# Altium integrated library Analog Devices Data Converters Digital-to-Analog Converters.IntLib: 2231 symbols (part 19 of 181)
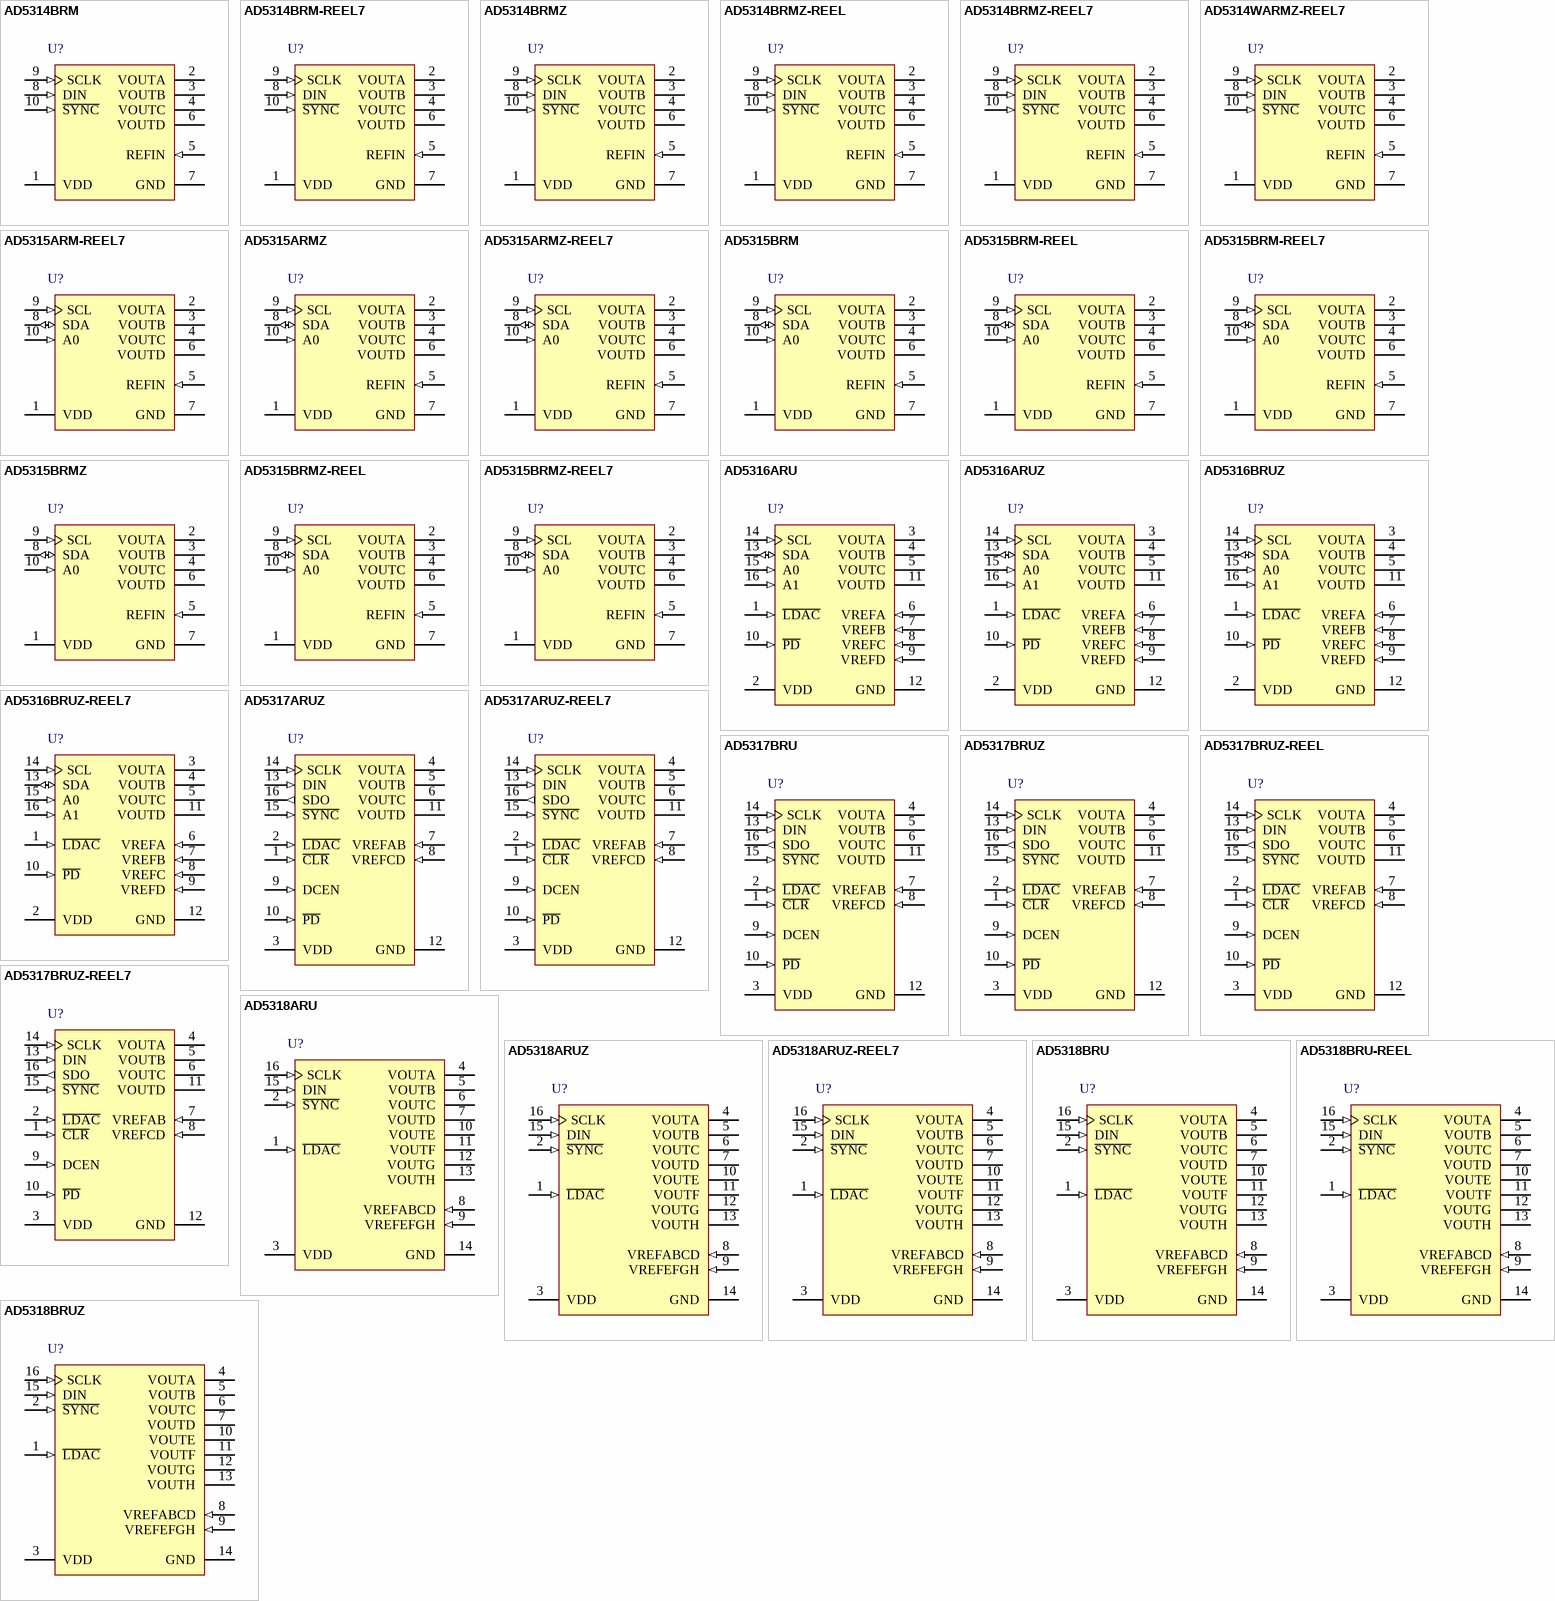
[diagram p132: symbols AD5314BRM to AD5318BRUZ]

## AD5316BRUZ
designator U?
Quad 10-Bit VoltageOutput Digital-to-Analog Converter with 2-Wire Interface, 2.5 to 5.5 V, 400 uA, -40 to +105 degC, RU-16, Pb-Free, Tube; Generic Part Number: AD5316; Manufacturer: Analog Devices; PartNumber: AD5316BRUZ; # DAC Outputs: 4; Max V+: 5.5V; Op Pwr Diss: 2.5mW; Resolution (Bits): 10; Settling Time: 7µs; Single Supply: Yes; DatasheetVersion: Rev.F; PackageVersion: Nov-2002; PackageReference: RU-16; PackageDescription: 16-Lead Thin Shrink Small Outline Package [TSSOP]; Supplier 1: Digi-Key; Supplier Part Number 1: AD5316BRUZ-ND; Supplier 2: Farnell; Supplier Part Number 2: 1079338; Supplier 3: Newark; Supplier Part Number 3: 31M4067; Supplier 4: Newark; Supplier Part Number 4: 59K3909; Supplier 5: Mouser; Supplier Part Number 5: 584-AD5316BRUZ; Packing: Tube; RoHS: Y; Mounting Technology: Surface Mount; Code_JEDEC: MO-153-AB; ComponentLink1Description: Manufacturer URL; ComponentLink1URL: http://www.analog.com/en/index.html; ComponentLink2Description: Datasheet; ComponentLink2URL: http://www.analog.com/static/imported-files/data_sheets/AD5306_5316_5326.pdf; ComponentLink3Description: Package Specification; ComponentLink3URL: http://www.analog.com/static/imported-files/packages/36244347913743854010197452789RU16.pdf; ComponentLink4Description: Product URL; ComponentLink4URL: http://www.analog.com/en/digital-to-analog-converters/da-converters/ad5316/products/product.html
footprint RU-16_N (TSOP, 16-Leads, Body 5x4.4mm, Pitch 0.65mm, IPC Medium Density)
footprint RU-16_L (TSOP, 16-Leads, Body 5x4.4mm, Pitch 0.65mm, IPC High Density)
footprint RU-16_M (TSOP, 16-Leads, Body 5x4.4mm, Pitch 0.65mm, IPC Low Density)
pins: 1 ~{LDAC} (in) "Active Low Control Input. Transfers the contents of the input registers to their respective DAC registers.Pulsing this pin low allows any or all DAC registers to be updated if the input registers have new data. This allows (See Datasheet)", 2 VDD (power) "Power Supply Input. These parts can be operated from 2.5 V to 5.5 V and the supply should be decoupled with a10 uF capacitor in parallel with a 0.1 uF capacitor to GND.", 3 VOUTA (hiz) "Buffered Analog Output Voltage from DAC A. The output amplifier has rail-to-rail operation.", 4 VOUTB (hiz) "Buffered Analog Output Voltage from DAC B. The output amplifier has rail-to-rail operation.", 5 VOUTC (hiz) "Buffered Analog Output Voltage from DAC C. The output amplifier has rail-to-rail operation.", 6 VREFA (in) "Reference Input Pin for DAC A. This pin can be configured as a buffered or an unbuffered input depending on the state of the BUF bit in the input word to DAC A. It has an input range from 0.25 V to VDD in unbuffered mode and (See Datasheet)", 7 VREFB (in) "Reference Input Pin for DAC B. This pin can be configured as a buffered or an unbuffered input depending on the state of the BUF bit in the input word to DAC B. It has an input range from 0.25 V to VDD in unbuffered mode and (See Datasheet)", 8 VREFC (in) "Reference Input Pin for DAC C. This pin can be configured as a buffered or an unbuffered input depending on the state of the BUF bit in the input word to DAC C. It has an input range from 0.25 V to VDD in unbuffered mode and (See Datasheet)", 9 VREFD (in) "Reference Input Pin for DAC D. This pin can be configured as a buffered or an unbuffered input depending on the state of the BUF bit in the input word to DAC D. It has an input range from 0.25 V to VDD in unbuffered mode and (See Datasheet)", 10 ~{PD} (in) "Active Low Control Input. Acts as a hardware power-down option. All DACs go into power-down mode when this pin is tied low. The DAC outputs go into a high impedance state. The current consumption of the part drops to 300 nA (See Datasheet)", 11 VOUTD (hiz) "Buffered Analog Output Voltage from DAC D. The output amplifier has rail-to-rail operation.", 12 GND (power) "Ground Reference Point for All Circuitry on the Part.", 13 SDA (io) "Serial Data Line. This is used in conjunction with the SCL line to clock data into the 16-bit input shift register.It is a bidirectional open-drain data line that should be pulled to the supply with an external pull-up (See Datasheet)", 14 SCL (in) "Serial Clock Line. This is used in conjunction with the SDA line to clock data into the 16-bit input shift register.Clock rates of up to 400 kbps can be accommodated in the I2C-compatible interface.", 15 A0 (in) "Address Input. Sets the LSB of the 7-bit slave address.", 16 A1 (in) "Address Input. Sets the second LSB of the 7-bit slave address."

## AD5316BRUZ-REEL7
designator U?
Quad 10-Bit VoltageOutput Digital-to-Analog Converter with 2-Wire Interface, 2.5 to 5.5 V, 400 uA, -40 to +105 degC, RU-16, Pb-Free, Reel; Generic Part Number: AD5316; Manufacturer: Analog Devices; PartNumber: AD5316BRUZ-REEL7; # DAC Outputs: 4; Max V+: 5.5V; Op Pwr Diss: 2.5mW; Resolution (Bits): 10; Settling Time: 7µs; Single Supply: Yes; DatasheetVersion: Rev.F; PackageVersion: Nov-2002; PackageReference: RU-16; PackageDescription: 16-Lead Thin Shrink Small Outline Package [TSSOP]; Supplier 1: Digi-Key; Supplier Part Number 1: AD5316BRUZ-REEL7-ND; Supplier 2: Mouser; Supplier Part Number 2: 584-AD5316BRUZ-R7; Packing: Reel; RoHS: Y; Mounting Technology: Surface Mount; Code_JEDEC: MO-153-AB; ComponentLink1Description: Manufacturer URL; ComponentLink1URL: http://www.analog.com/en/index.html; ComponentLink2Description: Datasheet; ComponentLink2URL: http://www.analog.com/static/imported-files/data_sheets/AD5306_5316_5326.pdf; ComponentLink3Description: Package Specification; ComponentLink3URL: http://www.analog.com/static/imported-files/packages/36244347913743854010197452789RU16.pdf; ComponentLink4Description: Product URL; ComponentLink4URL: http://www.analog.com/en/digital-to-analog-converters/da-converters/ad5316/products/product.html
footprint RU-16_N (TSOP, 16-Leads, Body 5x4.4mm, Pitch 0.65mm, IPC Medium Density)
footprint RU-16_L (TSOP, 16-Leads, Body 5x4.4mm, Pitch 0.65mm, IPC High Density)
footprint RU-16_M (TSOP, 16-Leads, Body 5x4.4mm, Pitch 0.65mm, IPC Low Density)
pins: 1 ~{LDAC} (in) "Active Low Control Input. Transfers the contents of the input registers to their respective DAC registers.Pulsing this pin low allows any or all DAC registers to be updated if the input registers have new data. This allows (See Datasheet)", 2 VDD (power) "Power Supply Input. These parts can be operated from 2.5 V to 5.5 V and the supply should be decoupled with a10 uF capacitor in parallel with a 0.1 uF capacitor to GND.", 3 VOUTA (hiz) "Buffered Analog Output Voltage from DAC A. The output amplifier has rail-to-rail operation.", 4 VOUTB (hiz) "Buffered Analog Output Voltage from DAC B. The output amplifier has rail-to-rail operation.", 5 VOUTC (hiz) "Buffered Analog Output Voltage from DAC C. The output amplifier has rail-to-rail operation.", 6 VREFA (in) "Reference Input Pin for DAC A. This pin can be configured as a buffered or an unbuffered input depending on the state of the BUF bit in the input word to DAC A. It has an input range from 0.25 V to VDD in unbuffered mode and (See Datasheet)", 7 VREFB (in) "Reference Input Pin for DAC B. This pin can be configured as a buffered or an unbuffered input depending on the state of the BUF bit in the input word to DAC B. It has an input range from 0.25 V to VDD in unbuffered mode and (See Datasheet)", 8 VREFC (in) "Reference Input Pin for DAC C. This pin can be configured as a buffered or an unbuffered input depending on the state of the BUF bit in the input word to DAC C. It has an input range from 0.25 V to VDD in unbuffered mode and (See Datasheet)", 9 VREFD (in) "Reference Input Pin for DAC D. This pin can be configured as a buffered or an unbuffered input depending on the state of the BUF bit in the input word to DAC D. It has an input range from 0.25 V to VDD in unbuffered mode and (See Datasheet)", 10 ~{PD} (in) "Active Low Control Input. Acts as a hardware power-down option. All DACs go into power-down mode when this pin is tied low. The DAC outputs go into a high impedance state. The current consumption of the part drops to 300 nA (See Datasheet)", 11 VOUTD (hiz) "Buffered Analog Output Voltage from DAC D. The output amplifier has rail-to-rail operation.", 12 GND (power) "Ground Reference Point for All Circuitry on the Part.", 13 SDA (io) "Serial Data Line. This is used in conjunction with the SCL line to clock data into the 16-bit input shift register.It is a bidirectional open-drain data line that should be pulled to the supply with an external pull-up (See Datasheet)", 14 SCL (in) "Serial Clock Line. This is used in conjunction with the SDA line to clock data into the 16-bit input shift register.Clock rates of up to 400 kbps can be accommodated in the I2C-compatible interface.", 15 A0 (in) "Address Input. Sets the LSB of the 7-bit slave address.", 16 A1 (in) "Address Input. Sets the second LSB of the 7-bit slave address."

## AD5317ARUZ
designator U?
Quad 10-Bit VoltageOutput Digital-to-Analog Converter, 2.5 to 5.5 V, 400 uA, -40 to +105 degC, RU-16, Pb-Free, Tube; Generic Part Number: AD5317; Manufacturer: Analog Devices; PartNumber: AD5317ARUZ; # DAC Outputs: 4; Max V+: 5.5V; Op Pwr Diss: 2.5mW; Resolution (Bits): 10; Settling Time: 7µs; Single Supply: Yes; DatasheetVersion: Rev.C; PackageVersion: Nov-2002; PackageReference: RU-16; PackageDescription: 16-Lead Thin Shrink Small Outline Package [TSSOP]; Supplier 1: Digi-Key; Supplier Part Number 1: AD5317ARUZ-ND; Supplier 2: Mouser; Supplier Part Number 2: 584-AD5317ARUZ; Packing: Tube; RoHS: Y; Mounting Technology: Surface Mount; Code_JEDEC: MO-153-AB; ComponentLink1Description: Manufacturer URL; ComponentLink1URL: http://www.analog.com/en/index.html; ComponentLink2Description: Datasheet; ComponentLink2URL: http://www.analog.com/static/imported-files/data_sheets/AD5307_5317_5327.pdf; ComponentLink3Description: Package Specification; ComponentLink3URL: http://www.analog.com/static/imported-files/packages/36244347913743854010197452789RU16.pdf; ComponentLink4Description: Product URL; ComponentLink4URL: http://www.analog.com/en/digital-to-analog-converters/da-converters/ad5317/products/product.html
footprint RU-16_N (TSOP, 16-Leads, Body 5x4.4mm, Pitch 0.65mm, IPC Medium Density)
footprint RU-16_L (TSOP, 16-Leads, Body 5x4.4mm, Pitch 0.65mm, IPC High Density)
footprint RU-16_M (TSOP, 16-Leads, Body 5x4.4mm, Pitch 0.65mm, IPC Low Density)
pins: 1 ~{CLR} (in) "Active Low Control Input. Loads all 0s to all input and DAC registers. Therefore, the outputs also go to 0 V.", 2 ~{LDAC} (in) "Active Low Control Input. Transfers the contents of the input registers to their respective DAC registers. Pulsing this pin low allows any or all DAC registers to be updated if the input registers have new data. This allows (See Datasheet)", 3 VDD (power) "Power Supply Input. These parts can be operated from 2.5 V to 5.5 V, and the supply should be decoupled with a 10 uF capacitor in parallel with a 0.1 uF capacitor to GND.", 4 VOUTA (hiz) "Buffered Analog Output Voltage from DAC A. The output amplifier has rail-to-rail operation.", 5 VOUTB (hiz) "Buffered Analog Output Voltage from DAC B. The output amplifier has rail-to-rail operation.", 6 VOUTC (hiz) "Buffered Analog Output Voltage from DAC C. The output amplifier has rail-to-rail operation.", 7 VREFAB (in) "Reference Input Pin for DAC A and DAC B. It can be configured as a buffered or unbuffered input to each or both of the DACs, depending on the state of the BUF bits in the serial input words to DAC A and DAC B. It has an (See Datasheet)", 8 VREFCD (in) "Reference Input Pin for DAC C and DAC D. It can be configured as a buffered or unbuffered input to each or both of the DACs, depending on the state of the BUF bits in the serial input words to DAC C and DAC D. It has an (See Datasheet)", 9 DCEN (in) "Enables the Daisy-Chaining Option. It should be tied high if the part is being used in a daisy chain, and tied low if it is being used in standalone mode.", 10 ~{PD} (in) "Active Low Control Input. It acts like a hardware power-down option. All DACs go into power-down mode when this pin is tied low. The DAC outputs go into a high impedance state, and the current consumption of the part drops (See Datasheet)", 11 VOUTD (hiz) "Buffered Analog Output Voltage from DAC D. The output amplifier has rail-to-rail operation.", 12 GND (power) "Ground Reference Point for All Circuitry on the Part.", 13 DIN (in) "Serial Data Input. These devices each have a 16-bit shift register. Data is clocked into the register on the falling edge of the serial clock input. The DIN input buffer is powered down after each write cycle.", 14 SCLK (in) "Serial Clock Input. Data is clocked into the input shift register on the falling edge of the serial clock input. Data can be transferred at rates of up to 30 MHz. The SCLK input buffer is powered down after each write cycle.", 15 ~{SYNC} (in) "Active Low Control Input. This is the frame synchronization signal for the input data. When S\Y\N\C\ goes low, it powers on the SCLK and DIN buffers and enables the input shift register. Data is transferred in on the falling (See Datasheet)", 16 SDO (out) "Serial Data Output. Can be used for daisy-chaining a number of these devices together or for reading back the data in the shift register for diagnostic purposes. The serial data is transferred on the rising edge of SCLK and (See Datasheet)"

## AD5317ARUZ-REEL7
designator U?
Quad 10-Bit VoltageOutput Digital-to-Analog Converter, 2.5 to 5.5 V, 400 uA, -40 to +105 degC, RU-16, Pb-Free, Reel; Generic Part Number: AD5317; Manufacturer: Analog Devices; PartNumber: AD5317ARUZ-REEL7; # DAC Outputs: 4; Max V+: 5.5V; Op Pwr Diss: 2.5mW; Resolution (Bits): 10; Settling Time: 7µs; Single Supply: Yes; DatasheetVersion: Rev.C; PackageVersion: Nov-2002; PackageReference: RU-16; PackageDescription: 16-Lead Thin Shrink Small Outline Package [TSSOP]; Supplier 1: Digi-Key; Supplier Part Number 1: AD5317ARUZ-REEL7-ND; Supplier 2: Mouser; Supplier Part Number 2: 584-AD5317ARUZ-R7; Packing: Reel; RoHS: Y; Mounting Technology: Surface Mount; Code_JEDEC: MO-153-AB; ComponentLink1Description: Manufacturer URL; ComponentLink1URL: http://www.analog.com/en/index.html; ComponentLink2Description: Datasheet; ComponentLink2URL: http://www.analog.com/static/imported-files/data_sheets/AD5307_5317_5327.pdf; ComponentLink3Description: Package Specification; ComponentLink3URL: http://www.analog.com/static/imported-files/packages/36244347913743854010197452789RU16.pdf; ComponentLink4Description: Product URL; ComponentLink4URL: http://www.analog.com/en/digital-to-analog-converters/da-converters/ad5317/products/product.html
footprint RU-16_N (TSOP, 16-Leads, Body 5x4.4mm, Pitch 0.65mm, IPC Medium Density)
footprint RU-16_L (TSOP, 16-Leads, Body 5x4.4mm, Pitch 0.65mm, IPC High Density)
footprint RU-16_M (TSOP, 16-Leads, Body 5x4.4mm, Pitch 0.65mm, IPC Low Density)
pins: 1 ~{CLR} (in) "Active Low Control Input. Loads all 0s to all input and DAC registers. Therefore, the outputs also go to 0 V.", 2 ~{LDAC} (in) "Active Low Control Input. Transfers the contents of the input registers to their respective DAC registers. Pulsing this pin low allows any or all DAC registers to be updated if the input registers have new data. This allows (See Datasheet)", 3 VDD (power) "Power Supply Input. These parts can be operated from 2.5 V to 5.5 V, and the supply should be decoupled with a 10 uF capacitor in parallel with a 0.1 uF capacitor to GND.", 4 VOUTA (hiz) "Buffered Analog Output Voltage from DAC A. The output amplifier has rail-to-rail operation.", 5 VOUTB (hiz) "Buffered Analog Output Voltage from DAC B. The output amplifier has rail-to-rail operation.", 6 VOUTC (hiz) "Buffered Analog Output Voltage from DAC C. The output amplifier has rail-to-rail operation.", 7 VREFAB (in) "Reference Input Pin for DAC A and DAC B. It can be configured as a buffered or unbuffered input to each or both of the DACs, depending on the state of the BUF bits in the serial input words to DAC A and DAC B. It has an (See Datasheet)", 8 VREFCD (in) "Reference Input Pin for DAC C and DAC D. It can be configured as a buffered or unbuffered input to each or both of the DACs, depending on the state of the BUF bits in the serial input words to DAC C and DAC D. It has an (See Datasheet)", 9 DCEN (in) "Enables the Daisy-Chaining Option. It should be tied high if the part is being used in a daisy chain, and tied low if it is being used in standalone mode.", 10 ~{PD} (in) "Active Low Control Input. It acts like a hardware power-down option. All DACs go into power-down mode when this pin is tied low. The DAC outputs go into a high impedance state, and the current consumption of the part drops (See Datasheet)", 11 VOUTD (hiz) "Buffered Analog Output Voltage from DAC D. The output amplifier has rail-to-rail operation.", 12 GND (power) "Ground Reference Point for All Circuitry on the Part.", 13 DIN (in) "Serial Data Input. These devices each have a 16-bit shift register. Data is clocked into the register on the falling edge of the serial clock input. The DIN input buffer is powered down after each write cycle.", 14 SCLK (in) "Serial Clock Input. Data is clocked into the input shift register on the falling edge of the serial clock input. Data can be transferred at rates of up to 30 MHz. The SCLK input buffer is powered down after each write cycle.", 15 ~{SYNC} (in) "Active Low Control Input. This is the frame synchronization signal for the input data. When S\Y\N\C\ goes low, it powers on the SCLK and DIN buffers and enables the input shift register. Data is transferred in on the falling (See Datasheet)", 16 SDO (out) "Serial Data Output. Can be used for daisy-chaining a number of these devices together or for reading back the data in the shift register for diagnostic purposes. The serial data is transferred on the rising edge of SCLK and (See Datasheet)"

## AD5317BRU
designator U?
Quad 10-Bit VoltageOutput Digital-to-Analog Converter, 2.5 to 5.5 V, 400 uA, -40 to +105 degC, RU-16, Tube; Generic Part Number: AD5317; Manufacturer: Analog Devices; PartNumber: AD5317BRU; # DAC Outputs: 4; Max V+: 5.5V; Op Pwr Diss: 2.5mW; Resolution (Bits): 10; Settling Time: 7µs; Single Supply: Yes; DatasheetVersion: Rev.C; PackageVersion: Nov-2002; PackageReference: RU-16; PackageDescription: 16-Lead Thin Shrink Small Outline Package [TSSOP]; Supplier 1: Digi-Key; Supplier Part Number 1: AD5317BRU-ND; Supplier 2: Mouser; Supplier Part Number 2: 584-AD5317BRU; Packing: Tube; RoHS: N; Mounting Technology: Surface Mount; Code_JEDEC: MO-153-AB; ComponentLink1Description: Manufacturer URL; ComponentLink1URL: http://www.analog.com/en/index.html; ComponentLink2Description: Datasheet; ComponentLink2URL: http://www.analog.com/static/imported-files/data_sheets/AD5307_5317_5327.pdf; ComponentLink3Description: Package Specification; ComponentLink3URL: http://www.analog.com/static/imported-files/packages/36244347913743854010197452789RU16.pdf; ComponentLink4Description: Product URL; ComponentLink4URL: http://www.analog.com/en/digital-to-analog-converters/da-converters/ad5317/products/product.html
footprint RU-16_N (TSOP, 16-Leads, Body 5x4.4mm, Pitch 0.65mm, IPC Medium Density)
footprint RU-16_L (TSOP, 16-Leads, Body 5x4.4mm, Pitch 0.65mm, IPC High Density)
footprint RU-16_M (TSOP, 16-Leads, Body 5x4.4mm, Pitch 0.65mm, IPC Low Density)
pins: 1 ~{CLR} (in) "Active Low Control Input. Loads all 0s to all input and DAC registers. Therefore, the outputs also go to 0 V.", 2 ~{LDAC} (in) "Active Low Control Input. Transfers the contents of the input registers to their respective DAC registers. Pulsing this pin low allows any or all DAC registers to be updated if the input registers have new data. This allows (See Datasheet)", 3 VDD (power) "Power Supply Input. These parts can be operated from 2.5 V to 5.5 V, and the supply should be decoupled with a 10 uF capacitor in parallel with a 0.1 uF capacitor to GND.", 4 VOUTA (hiz) "Buffered Analog Output Voltage from DAC A. The output amplifier has rail-to-rail operation.", 5 VOUTB (hiz) "Buffered Analog Output Voltage from DAC B. The output amplifier has rail-to-rail operation.", 6 VOUTC (hiz) "Buffered Analog Output Voltage from DAC C. The output amplifier has rail-to-rail operation.", 7 VREFAB (in) "Reference Input Pin for DAC A and DAC B. It can be configured as a buffered or unbuffered input to each or both of the DACs, depending on the state of the BUF bits in the serial input words to DAC A and DAC B. It has an (See Datasheet)", 8 VREFCD (in) "Reference Input Pin for DAC C and DAC D. It can be configured as a buffered or unbuffered input to each or both of the DACs, depending on the state of the BUF bits in the serial input words to DAC C and DAC D. It has an (See Datasheet)", 9 DCEN (in) "Enables the Daisy-Chaining Option. It should be tied high if the part is being used in a daisy chain, and tied low if it is being used in standalone mode.", 10 ~{PD} (in) "Active Low Control Input. It acts like a hardware power-down option. All DACs go into power-down mode when this pin is tied low. The DAC outputs go into a high impedance state, and the current consumption of the part drops (See Datasheet)", 11 VOUTD (hiz) "Buffered Analog Output Voltage from DAC D. The output amplifier has rail-to-rail operation.", 12 GND (power) "Ground Reference Point for All Circuitry on the Part.", 13 DIN (in) "Serial Data Input. These devices each have a 16-bit shift register. Data is clocked into the register on the falling edge of the serial clock input. The DIN input buffer is powered down after each write cycle.", 14 SCLK (in) "Serial Clock Input. Data is clocked into the input shift register on the falling edge of the serial clock input. Data can be transferred at rates of up to 30 MHz. The SCLK input buffer is powered down after each write cycle.", 15 ~{SYNC} (in) "Active Low Control Input. This is the frame synchronization signal for the input data. When S\Y\N\C\ goes low, it powers on the SCLK and DIN buffers and enables the input shift register. Data is transferred in on the falling (See Datasheet)", 16 SDO (out) "Serial Data Output. Can be used for daisy-chaining a number of these devices together or for reading back the data in the shift register for diagnostic purposes. The serial data is transferred on the rising edge of SCLK and (See Datasheet)"

## AD5317BRUZ
designator U?
Quad 10-Bit VoltageOutput Digital-to-Analog Converter, 2.5 to 5.5 V, 400 uA, -40 to +105 degC, RU-16, Pb-Free, Tube; Generic Part Number: AD5317; Manufacturer: Analog Devices; PartNumber: AD5317BRUZ; # DAC Outputs: 4; Max V+: 5.5V; Op Pwr Diss: 2.5mW; Resolution (Bits): 10; Settling Time: 7µs; Single Supply: Yes; DatasheetVersion: Rev.C; PackageVersion: Nov-2002; PackageReference: RU-16; PackageDescription: 16-Lead Thin Shrink Small Outline Package [TSSOP]; Supplier 1: Digi-Key; Supplier Part Number 1: AD5317BRUZ-ND; Supplier 2: Farnell; Supplier Part Number 2: 9425934; Supplier 3: Newark; Supplier Part Number 3: 31M4068; Supplier 4: Newark; Supplier Part Number 4: 59K3913; Supplier 5: Mouser; Supplier Part Number 5: 584-AD5317BRUZ; Packing: Tube; RoHS: Y; Mounting Technology: Surface Mount; Code_JEDEC: MO-153-AB; ComponentLink1Description: Manufacturer URL; ComponentLink1URL: http://www.analog.com/en/index.html; ComponentLink2Description: Datasheet; ComponentLink2URL: http://www.analog.com/static/imported-files/data_sheets/AD5307_5317_5327.pdf; ComponentLink3Description: Package Specification; ComponentLink3URL: http://www.analog.com/static/imported-files/packages/36244347913743854010197452789RU16.pdf; ComponentLink4Description: Product URL; ComponentLink4URL: http://www.analog.com/en/digital-to-analog-converters/da-converters/ad5317/products/product.html
footprint RU-16_N (TSOP, 16-Leads, Body 5x4.4mm, Pitch 0.65mm, IPC Medium Density)
footprint RU-16_L (TSOP, 16-Leads, Body 5x4.4mm, Pitch 0.65mm, IPC High Density)
footprint RU-16_M (TSOP, 16-Leads, Body 5x4.4mm, Pitch 0.65mm, IPC Low Density)
pins: 1 ~{CLR} (in) "Active Low Control Input. Loads all 0s to all input and DAC registers. Therefore, the outputs also go to 0 V.", 2 ~{LDAC} (in) "Active Low Control Input. Transfers the contents of the input registers to their respective DAC registers. Pulsing this pin low allows any or all DAC registers to be updated if the input registers have new data. This allows (See Datasheet)", 3 VDD (power) "Power Supply Input. These parts can be operated from 2.5 V to 5.5 V, and the supply should be decoupled with a 10 uF capacitor in parallel with a 0.1 uF capacitor to GND.", 4 VOUTA (hiz) "Buffered Analog Output Voltage from DAC A. The output amplifier has rail-to-rail operation.", 5 VOUTB (hiz) "Buffered Analog Output Voltage from DAC B. The output amplifier has rail-to-rail operation.", 6 VOUTC (hiz) "Buffered Analog Output Voltage from DAC C. The output amplifier has rail-to-rail operation.", 7 VREFAB (in) "Reference Input Pin for DAC A and DAC B. It can be configured as a buffered or unbuffered input to each or both of the DACs, depending on the state of the BUF bits in the serial input words to DAC A and DAC B. It has an (See Datasheet)", 8 VREFCD (in) "Reference Input Pin for DAC C and DAC D. It can be configured as a buffered or unbuffered input to each or both of the DACs, depending on the state of the BUF bits in the serial input words to DAC C and DAC D. It has an (See Datasheet)", 9 DCEN (in) "Enables the Daisy-Chaining Option. It should be tied high if the part is being used in a daisy chain, and tied low if it is being used in standalone mode.", 10 ~{PD} (in) "Active Low Control Input. It acts like a hardware power-down option. All DACs go into power-down mode when this pin is tied low. The DAC outputs go into a high impedance state, and the current consumption of the part drops (See Datasheet)", 11 VOUTD (hiz) "Buffered Analog Output Voltage from DAC D. The output amplifier has rail-to-rail operation.", 12 GND (power) "Ground Reference Point for All Circuitry on the Part.", 13 DIN (in) "Serial Data Input. These devices each have a 16-bit shift register. Data is clocked into the register on the falling edge of the serial clock input. The DIN input buffer is powered down after each write cycle.", 14 SCLK (in) "Serial Clock Input. Data is clocked into the input shift register on the falling edge of the serial clock input. Data can be transferred at rates of up to 30 MHz. The SCLK input buffer is powered down after each write cycle.", 15 ~{SYNC} (in) "Active Low Control Input. This is the frame synchronization signal for the input data. When S\Y\N\C\ goes low, it powers on the SCLK and DIN buffers and enables the input shift register. Data is transferred in on the falling (See Datasheet)", 16 SDO (out) "Serial Data Output. Can be used for daisy-chaining a number of these devices together or for reading back the data in the shift register for diagnostic purposes. The serial data is transferred on the rising edge of SCLK and (See Datasheet)"

## AD5317BRUZ-REEL
designator U?
Quad 10-Bit VoltageOutput Digital-to-Analog Converter, 2.5 to 5.5 V, 400 uA, -40 to +105 degC, RU-16, Pb-Free, Reel; Generic Part Number: AD5317; Manufacturer: Analog Devices; PartNumber: AD5317BRUZ-REEL; # DAC Outputs: 4; Max V+: 5.5V; Op Pwr Diss: 2.5mW; Resolution (Bits): 10; Settling Time: 7µs; Single Supply: Yes; DatasheetVersion: Rev.C; PackageVersion: Nov-2002; PackageReference: RU-16; PackageDescription: 16-Lead Thin Shrink Small Outline Package [TSSOP]; Supplier 1: Digi-Key; Supplier Part Number 1: AD5317BRUZ-REEL-ND; Supplier 2: Mouser; Supplier Part Number 2: 584-AD5317BRUZ-R; Packing: Reel; RoHS: Y; Mounting Technology: Surface Mount; Code_JEDEC: MO-153-AB; ComponentLink1Description: Manufacturer URL; ComponentLink1URL: http://www.analog.com/en/index.html; ComponentLink2Description: Datasheet; ComponentLink2URL: http://www.analog.com/static/imported-files/data_sheets/AD5307_5317_5327.pdf; ComponentLink3Description: Package Specification; ComponentLink3URL: http://www.analog.com/static/imported-files/packages/36244347913743854010197452789RU16.pdf; ComponentLink4Description: Product URL; ComponentLink4URL: http://www.analog.com/en/digital-to-analog-converters/da-converters/ad5317/products/product.html
footprint RU-16_N (TSOP, 16-Leads, Body 5x4.4mm, Pitch 0.65mm, IPC Medium Density)
footprint RU-16_L (TSOP, 16-Leads, Body 5x4.4mm, Pitch 0.65mm, IPC High Density)
footprint RU-16_M (TSOP, 16-Leads, Body 5x4.4mm, Pitch 0.65mm, IPC Low Density)
pins: 1 ~{CLR} (in) "Active Low Control Input. Loads all 0s to all input and DAC registers. Therefore, the outputs also go to 0 V.", 2 ~{LDAC} (in) "Active Low Control Input. Transfers the contents of the input registers to their respective DAC registers. Pulsing this pin low allows any or all DAC registers to be updated if the input registers have new data. This allows (See Datasheet)", 3 VDD (power) "Power Supply Input. These parts can be operated from 2.5 V to 5.5 V, and the supply should be decoupled with a 10 uF capacitor in parallel with a 0.1 uF capacitor to GND.", 4 VOUTA (hiz) "Buffered Analog Output Voltage from DAC A. The output amplifier has rail-to-rail operation.", 5 VOUTB (hiz) "Buffered Analog Output Voltage from DAC B. The output amplifier has rail-to-rail operation.", 6 VOUTC (hiz) "Buffered Analog Output Voltage from DAC C. The output amplifier has rail-to-rail operation.", 7 VREFAB (in) "Reference Input Pin for DAC A and DAC B. It can be configured as a buffered or unbuffered input to each or both of the DACs, depending on the state of the BUF bits in the serial input words to DAC A and DAC B. It has an (See Datasheet)", 8 VREFCD (in) "Reference Input Pin for DAC C and DAC D. It can be configured as a buffered or unbuffered input to each or both of the DACs, depending on the state of the BUF bits in the serial input words to DAC C and DAC D. It has an (See Datasheet)", 9 DCEN (in) "Enables the Daisy-Chaining Option. It should be tied high if the part is being used in a daisy chain, and tied low if it is being used in standalone mode.", 10 ~{PD} (in) "Active Low Control Input. It acts like a hardware power-down option. All DACs go into power-down mode when this pin is tied low. The DAC outputs go into a high impedance state, and the current consumption of the part drops (See Datasheet)", 11 VOUTD (hiz) "Buffered Analog Output Voltage from DAC D. The output amplifier has rail-to-rail operation.", 12 GND (power) "Ground Reference Point for All Circuitry on the Part.", 13 DIN (in) "Serial Data Input. These devices each have a 16-bit shift register. Data is clocked into the register on the falling edge of the serial clock input. The DIN input buffer is powered down after each write cycle.", 14 SCLK (in) "Serial Clock Input. Data is clocked into the input shift register on the falling edge of the serial clock input. Data can be transferred at rates of up to 30 MHz. The SCLK input buffer is powered down after each write cycle.", 15 ~{SYNC} (in) "Active Low Control Input. This is the frame synchronization signal for the input data. When S\Y\N\C\ goes low, it powers on the SCLK and DIN buffers and enables the input shift register. Data is transferred in on the falling (See Datasheet)", 16 SDO (out) "Serial Data Output. Can be used for daisy-chaining a number of these devices together or for reading back the data in the shift register for diagnostic purposes. The serial data is transferred on the rising edge of SCLK and (See Datasheet)"

## AD5317BRUZ-REEL7
designator U?
Quad 10-Bit VoltageOutput Digital-to-Analog Converter, 2.5 to 5.5 V, 400 uA, -40 to +105 degC, RU-16, Pb-Free, Reel; Generic Part Number: AD5317; Manufacturer: Analog Devices; PartNumber: AD5317BRUZ-REEL7; # DAC Outputs: 4; Max V+: 5.5V; Op Pwr Diss: 2.5mW; Resolution (Bits): 10; Settling Time: 7µs; Single Supply: Yes; DatasheetVersion: Rev.C; PackageVersion: Nov-2002; PackageReference: RU-16; PackageDescription: 16-Lead Thin Shrink Small Outline Package [TSSOP]; Supplier 1: Digi-Key; Supplier Part Number 1: AD5317BRUZREEL7TR-ND; Supplier 2: Digi-Key; Supplier Part Number 2: AD5317BRUZREEL7CT-ND; Supplier 3: Digi-Key; Supplier Part Number 3: AD5317BRUZREEL7DKR-ND; Supplier 4: Mouser; Supplier Part Number 4: 584-AD5317BRUZ-R7; Packing: Reel; RoHS: Y; Mounting Technology: Surface Mount; Code_JEDEC: MO-153-AB; ComponentLink1Description: Manufacturer URL; ComponentLink1URL: http://www.analog.com/en/index.html; ComponentLink2Description: Datasheet; ComponentLink2URL: http://www.analog.com/static/imported-files/data_sheets/AD5307_5317_5327.pdf; ComponentLink3Description: Package Specification; ComponentLink3URL: http://www.analog.com/static/imported-files/packages/36244347913743854010197452789RU16.pdf; ComponentLink4Description: Product URL; ComponentLink4URL: http://www.analog.com/en/digital-to-analog-converters/da-converters/ad5317/products/product.html
footprint RU-16_N (TSOP, 16-Leads, Body 5x4.4mm, Pitch 0.65mm, IPC Medium Density)
footprint RU-16_L (TSOP, 16-Leads, Body 5x4.4mm, Pitch 0.65mm, IPC High Density)
footprint RU-16_M (TSOP, 16-Leads, Body 5x4.4mm, Pitch 0.65mm, IPC Low Density)
pins: 1 ~{CLR} (in) "Active Low Control Input. Loads all 0s to all input and DAC registers. Therefore, the outputs also go to 0 V.", 2 ~{LDAC} (in) "Active Low Control Input. Transfers the contents of the input registers to their respective DAC registers. Pulsing this pin low allows any or all DAC registers to be updated if the input registers have new data. This allows (See Datasheet)", 3 VDD (power) "Power Supply Input. These parts can be operated from 2.5 V to 5.5 V, and the supply should be decoupled with a 10 uF capacitor in parallel with a 0.1 uF capacitor to GND.", 4 VOUTA (hiz) "Buffered Analog Output Voltage from DAC A. The output amplifier has rail-to-rail operation.", 5 VOUTB (hiz) "Buffered Analog Output Voltage from DAC B. The output amplifier has rail-to-rail operation.", 6 VOUTC (hiz) "Buffered Analog Output Voltage from DAC C. The output amplifier has rail-to-rail operation.", 7 VREFAB (in) "Reference Input Pin for DAC A and DAC B. It can be configured as a buffered or unbuffered input to each or both of the DACs, depending on the state of the BUF bits in the serial input words to DAC A and DAC B. It has an (See Datasheet)", 8 VREFCD (in) "Reference Input Pin for DAC C and DAC D. It can be configured as a buffered or unbuffered input to each or both of the DACs, depending on the state of the BUF bits in the serial input words to DAC C and DAC D. It has an (See Datasheet)", 9 DCEN (in) "Enables the Daisy-Chaining Option. It should be tied high if the part is being used in a daisy chain, and tied low if it is being used in standalone mode.", 10 ~{PD} (in) "Active Low Control Input. It acts like a hardware power-down option. All DACs go into power-down mode when this pin is tied low. The DAC outputs go into a high impedance state, and the current consumption of the part drops (See Datasheet)", 11 VOUTD (hiz) "Buffered Analog Output Voltage from DAC D. The output amplifier has rail-to-rail operation.", 12 GND (power) "Ground Reference Point for All Circuitry on the Part.", 13 DIN (in) "Serial Data Input. These devices each have a 16-bit shift register. Data is clocked into the register on the falling edge of the serial clock input. The DIN input buffer is powered down after each write cycle.", 14 SCLK (in) "Serial Clock Input. Data is clocked into the input shift register on the falling edge of the serial clock input. Data can be transferred at rates of up to 30 MHz. The SCLK input buffer is powered down after each write cycle.", 15 ~{SYNC} (in) "Active Low Control Input. This is the frame synchronization signal for the input data. When S\Y\N\C\ goes low, it powers on the SCLK and DIN buffers and enables the input shift register. Data is transferred in on the falling (See Datasheet)", 16 SDO (out) "Serial Data Output. Can be used for daisy-chaining a number of these devices together or for reading back the data in the shift register for diagnostic purposes. The serial data is transferred on the rising edge of SCLK and (See Datasheet)"

## AD5318ARU
designator U?
Octal 10-Bit Voltage Output Digital-to-Analog Converter, 2.5 to 5.5 V, -40 to +125 degC, RU-16, Tube; Generic Part Number: AD5318; Manufacturer: Analog Devices; PartNumber: AD5318ARU; # DAC Outputs: 8; Max V+: 5.5V; Op Pwr Diss: 5mW; Resolution (Bits): 10; Settling Time: 7µs; Single Supply: Yes; DatasheetVersion: Rev.F; PackageVersion: Nov-2002; PackageReference: RU-16; PackageDescription: 16-Lead Thin Shrink Small Outline Package [TSSOP]; Supplier 1: Digi-Key; Supplier Part Number 1: AD5318ARU-ND; Supplier 2: Mouser; Supplier Part Number 2: 584-AD5318ARU; Packing: Tube; RoHS: N; Mounting Technology: Surface Mount; Code_JEDEC: MO-153-AB; ComponentLink1Description: Manufacturer URL; ComponentLink1URL: http://www.analog.com/en/index.html; ComponentLink2Description: Datasheet; ComponentLink2URL: http://www.analog.com/static/imported-files/data_sheets/AD5308_5318_5328.pdf; ComponentLink3Description: Package Specification; ComponentLink3URL: http://www.analog.com/static/imported-files/packages/36244347913743854010197452789RU16.pdf; ComponentLink4Description: Product URL; ComponentLink4URL: http://www.analog.com/en/digital-to-analog-converters/da-converters/ad5318/products/product.html
footprint RU-16_N (TSOP, 16-Leads, Body 5x4.4mm, Pitch 0.65mm, IPC Medium Density)
footprint RU-16_L (TSOP, 16-Leads, Body 5x4.4mm, Pitch 0.65mm, IPC High Density)
footprint RU-16_M (TSOP, 16-Leads, Body 5x4.4mm, Pitch 0.65mm, IPC Low Density)
pins: 1 ~{LDAC} (in) "This active low control input transfers the contents of the input registers to their respective DAC registers. Pulsing this pin low allows any or all DAC registers to be updated if the input registers have new data. This (See Datasheet)", 2 ~{SYNC} (in) "Active Low Control Input. This is the frame synchronization signal for the input data. When S\Y\N\C\ goes low, it powers on the SCLK and DIN buffers and enables the input shift register. Data is transferred in on the falling (See Datasheet)", 3 VDD (power) "Power Supply Input. These parts can be operated from 2.5 V to 5.5 V, and the supply should be decoupled with a 10 uF capacitor in parallel with a 0.1 uF capacitor to GND.", 4 VOUTA (hiz) "Buffered Analog Output Voltage from DAC A. The output amplifier has rail-to-rail operation.", 5 VOUTB (hiz) "Buffered Analog Output Voltage from DAC B. The output amplifier has rail-to-rail operation.", 6 VOUTC (hiz) "Buffered Analog Output Voltage from DAC C. The output amplifier has rail-to-rail operation.", 7 VOUTD (hiz) "Buffered Analog Output Voltage from DAC D. The output amplifier has rail-to-rail operation.", 8 VREFABCD (in) "Reference Input Pin for DACs A, B, C, and D. It can be configured as a buffered, unbuffered, or VDD input to the four DACs, depending on the state of the BUF and VDD control bits. It has an input range from 0.25 V to VDD in (See Datasheet)", 9 VREFEFGH (in) "Reference Input Pin for DACs E, F, G, and H. It can be configured as a buffered, unbuffered, or VDD input to the four DACs, depending on the state of the BUF and VDD control bits. It has an input range from 0.25 V to VDD in (See Datasheet)", 10 VOUTE (hiz) "Buffered Analog Output Voltage from DAC E. The output amplifier has rail-to-rail operation.", 11 VOUTF (hiz) "Buffered Analog Output Voltage from DAC F. The output amplifier has rail-to-rail operation.", 12 VOUTG (hiz) "Buffered Analog Output Voltage from DAC G. The output amplifier has rail-to-rail operation.", 13 VOUTH (hiz) "Buffered Analog Output Voltage from DAC H. The output amplifier has rail-to-rail operation.", 14 GND (power) "Ground Reference Point for All Circuitry on the Part.", 15 DIN (in) "Serial Data Input. This device has a 16-bit shift register. Data is clocked into the register on the falling edge of the serial clock input. The DIN input buffer is powered down after each write cycle.", 16 SCLK (in) "Serial Clock Input. Data is clocked into the input shift register on the falling edge of the serial clock input. Data can be transferred at rates up to 30 MHz. The SCLK input buffer is powered down after each write cycle."

## AD5318ARUZ
designator U?
Octal 10-Bit Voltage Output Digital-to-Analog Converter, 2.5 to 5.5 V, -40 to +125 degC, RU-16, Pb-Free, Tube; Generic Part Number: AD5318; Manufacturer: Analog Devices; PartNumber: AD5318ARUZ; # DAC Outputs: 8; Max V+: 5.5V; Op Pwr Diss: 5mW; Resolution (Bits): 10; Settling Time: 7µs; Single Supply: Yes; DatasheetVersion: Rev.F; PackageVersion: Nov-2002; PackageReference: RU-16; PackageDescription: 16-Lead Thin Shrink Small Outline Package [TSSOP]; Supplier 1: Digi-Key; Supplier Part Number 1: AD5318ARUZ-ND; Supplier 2: Farnell; Supplier Part Number 2: 2305671; Supplier 3: Newark; Supplier Part Number 3: 84W7394; Supplier 4: Newark; Supplier Part Number 4: 59K3916; Supplier 5: Mouser; Supplier Part Number 5: 584-AD5318ARUZ; Packing: Tube; RoHS: Y; Mounting Technology: Surface Mount; Code_JEDEC: MO-153-AB; ComponentLink1Description: Manufacturer URL; ComponentLink1URL: http://www.analog.com/en/index.html; ComponentLink2Description: Datasheet; ComponentLink2URL: http://www.analog.com/static/imported-files/data_sheets/AD5308_5318_5328.pdf; ComponentLink3Description: Package Specification; ComponentLink3URL: http://www.analog.com/static/imported-files/packages/36244347913743854010197452789RU16.pdf; ComponentLink4Description: Product URL; ComponentLink4URL: http://www.analog.com/en/digital-to-analog-converters/da-converters/ad5318/products/product.html
footprint RU-16_N (TSOP, 16-Leads, Body 5x4.4mm, Pitch 0.65mm, IPC Medium Density)
footprint RU-16_L (TSOP, 16-Leads, Body 5x4.4mm, Pitch 0.65mm, IPC High Density)
footprint RU-16_M (TSOP, 16-Leads, Body 5x4.4mm, Pitch 0.65mm, IPC Low Density)
pins: 1 ~{LDAC} (in) "This active low control input transfers the contents of the input registers to their respective DAC registers. Pulsing this pin low allows any or all DAC registers to be updated if the input registers have new data. This (See Datasheet)", 2 ~{SYNC} (in) "Active Low Control Input. This is the frame synchronization signal for the input data. When S\Y\N\C\ goes low, it powers on the SCLK and DIN buffers and enables the input shift register. Data is transferred in on the falling (See Datasheet)", 3 VDD (power) "Power Supply Input. These parts can be operated from 2.5 V to 5.5 V, and the supply should be decoupled with a 10 uF capacitor in parallel with a 0.1 uF capacitor to GND.", 4 VOUTA (hiz) "Buffered Analog Output Voltage from DAC A. The output amplifier has rail-to-rail operation.", 5 VOUTB (hiz) "Buffered Analog Output Voltage from DAC B. The output amplifier has rail-to-rail operation.", 6 VOUTC (hiz) "Buffered Analog Output Voltage from DAC C. The output amplifier has rail-to-rail operation.", 7 VOUTD (hiz) "Buffered Analog Output Voltage from DAC D. The output amplifier has rail-to-rail operation.", 8 VREFABCD (in) "Reference Input Pin for DACs A, B, C, and D. It can be configured as a buffered, unbuffered, or VDD input to the four DACs, depending on the state of the BUF and VDD control bits. It has an input range from 0.25 V to VDD in (See Datasheet)", 9 VREFEFGH (in) "Reference Input Pin for DACs E, F, G, and H. It can be configured as a buffered, unbuffered, or VDD input to the four DACs, depending on the state of the BUF and VDD control bits. It has an input range from 0.25 V to VDD in (See Datasheet)", 10 VOUTE (hiz) "Buffered Analog Output Voltage from DAC E. The output amplifier has rail-to-rail operation.", 11 VOUTF (hiz) "Buffered Analog Output Voltage from DAC F. The output amplifier has rail-to-rail operation.", 12 VOUTG (hiz) "Buffered Analog Output Voltage from DAC G. The output amplifier has rail-to-rail operation.", 13 VOUTH (hiz) "Buffered Analog Output Voltage from DAC H. The output amplifier has rail-to-rail operation.", 14 GND (power) "Ground Reference Point for All Circuitry on the Part.", 15 DIN (in) "Serial Data Input. This device has a 16-bit shift register. Data is clocked into the register on the falling edge of the serial clock input. The DIN input buffer is powered down after each write cycle.", 16 SCLK (in) "Serial Clock Input. Data is clocked into the input shift register on the falling edge of the serial clock input. Data can be transferred at rates up to 30 MHz. The SCLK input buffer is powered down after each write cycle."

## AD5318ARUZ-REEL7
designator U?
Octal 10-Bit Voltage Output Digital-to-Analog Converter, 2.5 to 5.5 V, -40 to +125 degC, RU-16, Pb-Free, Reel; Generic Part Number: AD5318; Manufacturer: Analog Devices; PartNumber: AD5318ARUZ-REEL7; # DAC Outputs: 8; Max V+: 5.5V; Op Pwr Diss: 5mW; Resolution (Bits): 10; Settling Time: 7µs; Single Supply: Yes; DatasheetVersion: Rev.F; PackageVersion: Nov-2002; PackageReference: RU-16; PackageDescription: 16-Lead Thin Shrink Small Outline Package [TSSOP]; Supplier 1: Digi-Key; Supplier Part Number 1: AD5318ARUZ-REEL7TR-ND; Supplier 2: Digi-Key; Supplier Part Number 2: AD5318ARUZ-REEL7CT-ND; Supplier 3: Digi-Key; Supplier Part Number 3: AD5318ARUZ-REEL7DKR-ND; Supplier 4: Newark; Supplier Part Number 4: 59K3917; Supplier 5: Mouser; Supplier Part Number 5: 584-AD5318ARUZ-R7; Packing: Reel; RoHS: Y; Mounting Technology: Surface Mount; Code_JEDEC: MO-153-AB; ComponentLink1Description: Manufacturer URL; ComponentLink1URL: http://www.analog.com/en/index.html; ComponentLink2Description: Datasheet; ComponentLink2URL: http://www.analog.com/static/imported-files/data_sheets/AD5308_5318_5328.pdf; ComponentLink3Description: Package Specification; ComponentLink3URL: http://www.analog.com/static/imported-files/packages/36244347913743854010197452789RU16.pdf; ComponentLink4Description: Product URL; ComponentLink4URL: http://www.analog.com/en/digital-to-analog-converters/da-converters/ad5318/products/product.html
footprint RU-16_N (TSOP, 16-Leads, Body 5x4.4mm, Pitch 0.65mm, IPC Medium Density)
footprint RU-16_L (TSOP, 16-Leads, Body 5x4.4mm, Pitch 0.65mm, IPC High Density)
footprint RU-16_M (TSOP, 16-Leads, Body 5x4.4mm, Pitch 0.65mm, IPC Low Density)
pins: 1 ~{LDAC} (in) "This active low control input transfers the contents of the input registers to their respective DAC registers. Pulsing this pin low allows any or all DAC registers to be updated if the input registers have new data. This (See Datasheet)", 2 ~{SYNC} (in) "Active Low Control Input. This is the frame synchronization signal for the input data. When S\Y\N\C\ goes low, it powers on the SCLK and DIN buffers and enables the input shift register. Data is transferred in on the falling (See Datasheet)", 3 VDD (power) "Power Supply Input. These parts can be operated from 2.5 V to 5.5 V, and the supply should be decoupled with a 10 uF capacitor in parallel with a 0.1 uF capacitor to GND.", 4 VOUTA (hiz) "Buffered Analog Output Voltage from DAC A. The output amplifier has rail-to-rail operation.", 5 VOUTB (hiz) "Buffered Analog Output Voltage from DAC B. The output amplifier has rail-to-rail operation.", 6 VOUTC (hiz) "Buffered Analog Output Voltage from DAC C. The output amplifier has rail-to-rail operation.", 7 VOUTD (hiz) "Buffered Analog Output Voltage from DAC D. The output amplifier has rail-to-rail operation.", 8 VREFABCD (in) "Reference Input Pin for DACs A, B, C, and D. It can be configured as a buffered, unbuffered, or VDD input to the four DACs, depending on the state of the BUF and VDD control bits. It has an input range from 0.25 V to VDD in (See Datasheet)", 9 VREFEFGH (in) "Reference Input Pin for DACs E, F, G, and H. It can be configured as a buffered, unbuffered, or VDD input to the four DACs, depending on the state of the BUF and VDD control bits. It has an input range from 0.25 V to VDD in (See Datasheet)", 10 VOUTE (hiz) "Buffered Analog Output Voltage from DAC E. The output amplifier has rail-to-rail operation.", 11 VOUTF (hiz) "Buffered Analog Output Voltage from DAC F. The output amplifier has rail-to-rail operation.", 12 VOUTG (hiz) "Buffered Analog Output Voltage from DAC G. The output amplifier has rail-to-rail operation.", 13 VOUTH (hiz) "Buffered Analog Output Voltage from DAC H. The output amplifier has rail-to-rail operation.", 14 GND (power) "Ground Reference Point for All Circuitry on the Part.", 15 DIN (in) "Serial Data Input. This device has a 16-bit shift register. Data is clocked into the register on the falling edge of the serial clock input. The DIN input buffer is powered down after each write cycle.", 16 SCLK (in) "Serial Clock Input. Data is clocked into the input shift register on the falling edge of the serial clock input. Data can be transferred at rates up to 30 MHz. The SCLK input buffer is powered down after each write cycle."